# Altium footprint library Samsung-MLCC-1206.PcbLib: 4 footprints
Each footprint in its own frame and in the unit in brackets; x right, y up, seen from the top. Pads: shape width x height; smd on the part's side, far side on the other; paste and mask are expansions set on the pad; w line width, h text height; cw(c..) or ccw(c..) is an arc to the next point about the centre after c.
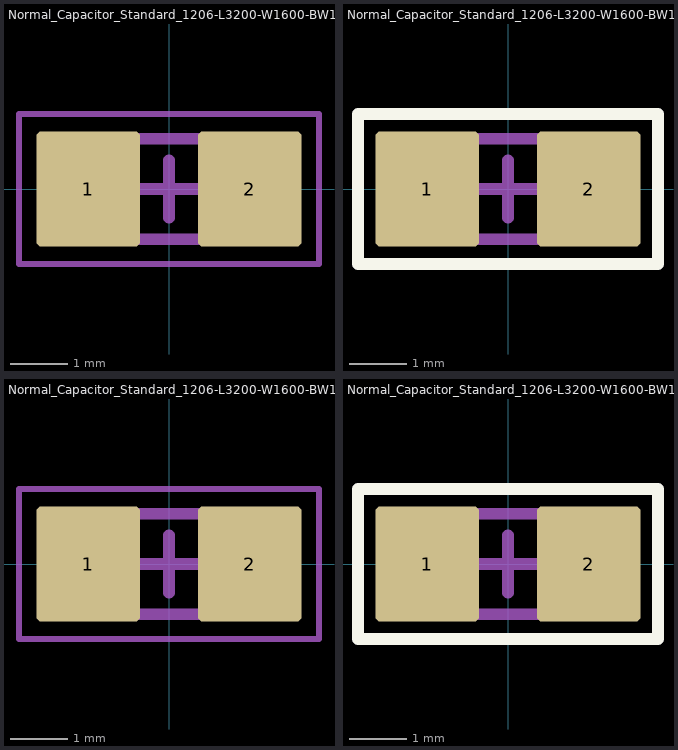
[diagram p0: the footprints below, top view; thin cyan lines are the x and y axes]

## Normal_Capacitor_Standard_1206-L3200-W1600-BW1250-H1600 [mm]
height 1.6
pads (2):
  rrect10% 1.8x2 smd: 1(-1.4,0) 2(1.4,0)
Top Courtyard:
  lines w0.1: -2.6,-1.3 -2.6,1.3 2.6,1.3 2.6,-1.3 -2.6,-1.3
  lines w0.2: -0.5,0 0.5,0 ; 0,-0.5 0,0.5
Top Assembly:
  lines w0.2: -1.65,-0.875 -1.65,0.875 1.65,0.875 1.65,-0.875 -1.65,-0.875
Top Designator (Mech10):
  text ".Designator" at -7.618,-0.508 h1.52
3D body "SMD_CCAP_1206-H1600.STEP": height 1.6, standoff 0, extent -1.6,-0.8 1.6,0.8

## Normal_Capacitor_Standard_1206-L3200-W1600-BW1250-H1600 - OVERLAY [mm]
height 1.6
pads (2):
  rrect10% 1.8x2 smd: 1(-1.4,0) 2(1.4,0)
Top Overlay:
  lines w0.2: -2.6,-1.3 -2.6,1.3 2.6,1.3 2.6,-1.3 -2.6,-1.3
Top Courtyard:
  lines w0.1: -2.6,-1.3 -2.6,1.3 2.6,1.3 2.6,-1.3 -2.6,-1.3
  lines w0.2: -0.5,0 0.5,0 ; 0,-0.5 0,0.5
Top Assembly:
  lines w0.2: -1.65,-0.875 -1.65,0.875 1.65,0.875 1.65,-0.875 -1.65,-0.875
Top Designator (Mech10):
  text ".Designator" at -7.618,-0.508 h1.52
3D body "SMD_CCAP_1206-H1600.STEP": height 1.6, standoff 0, extent -1.6,-0.8 1.6,0.8

## Normal_Capacitor_Standard_1206-L3200-W1600-BW1250-H1800 [mm]
height 1.8
pads (2):
  rrect10% 1.8x2 smd: 1(-1.4,0) 2(1.4,0)
Top Courtyard:
  lines w0.1: -2.6,-1.3 -2.6,1.3 2.6,1.3 2.6,-1.3 -2.6,-1.3
  lines w0.2: -0.5,0 0.5,0 ; 0,-0.5 0,0.5
Top Assembly:
  lines w0.2: -1.65,-0.875 -1.65,0.875 1.65,0.875 1.65,-0.875 -1.65,-0.875
Top Designator (Mech10):
  text ".Designator" at -7.618,-0.508 h1.52
3D body "SMD_CCAP_1206-H1800.STEP": height 1.8, standoff 0, extent -1.6,-0.8 1.6,0.8

## Normal_Capacitor_Standard_1206-L3200-W1600-BW1250-H1800 - OVERLAY [mm]
height 1.8
pads (2):
  rrect10% 1.8x2 smd: 1(-1.4,0) 2(1.4,0)
Top Overlay:
  lines w0.2: -2.6,-1.3 -2.6,1.3 2.6,1.3 2.6,-1.3 -2.6,-1.3
Top Courtyard:
  lines w0.1: -2.6,-1.3 -2.6,1.3 2.6,1.3 2.6,-1.3 -2.6,-1.3
  lines w0.2: -0.5,0 0.5,0 ; 0,-0.5 0,0.5
Top Assembly:
  lines w0.2: -1.65,-0.875 -1.65,0.875 1.65,0.875 1.65,-0.875 -1.65,-0.875
Top Designator (Mech10):
  text ".Designator" at -7.618,-0.508 h1.52
3D body "SMD_CCAP_1206-H1800.STEP": height 1.8, standoff 0, extent -1.6,-0.8 1.6,0.8